# Altium footprint library Iot_board_pcblib.PcbLib: 18 footprints (part 1 of 2)
Each footprint in its own frame and in the unit in brackets; x right, y up, seen from the top. Pads: shape width x height; smd on the part's side, far side on the other; paste and mask are expansions set on the pad; w line width, h text height; cw(c..) or ccw(c..) is an arc to the next point about the centre after c.
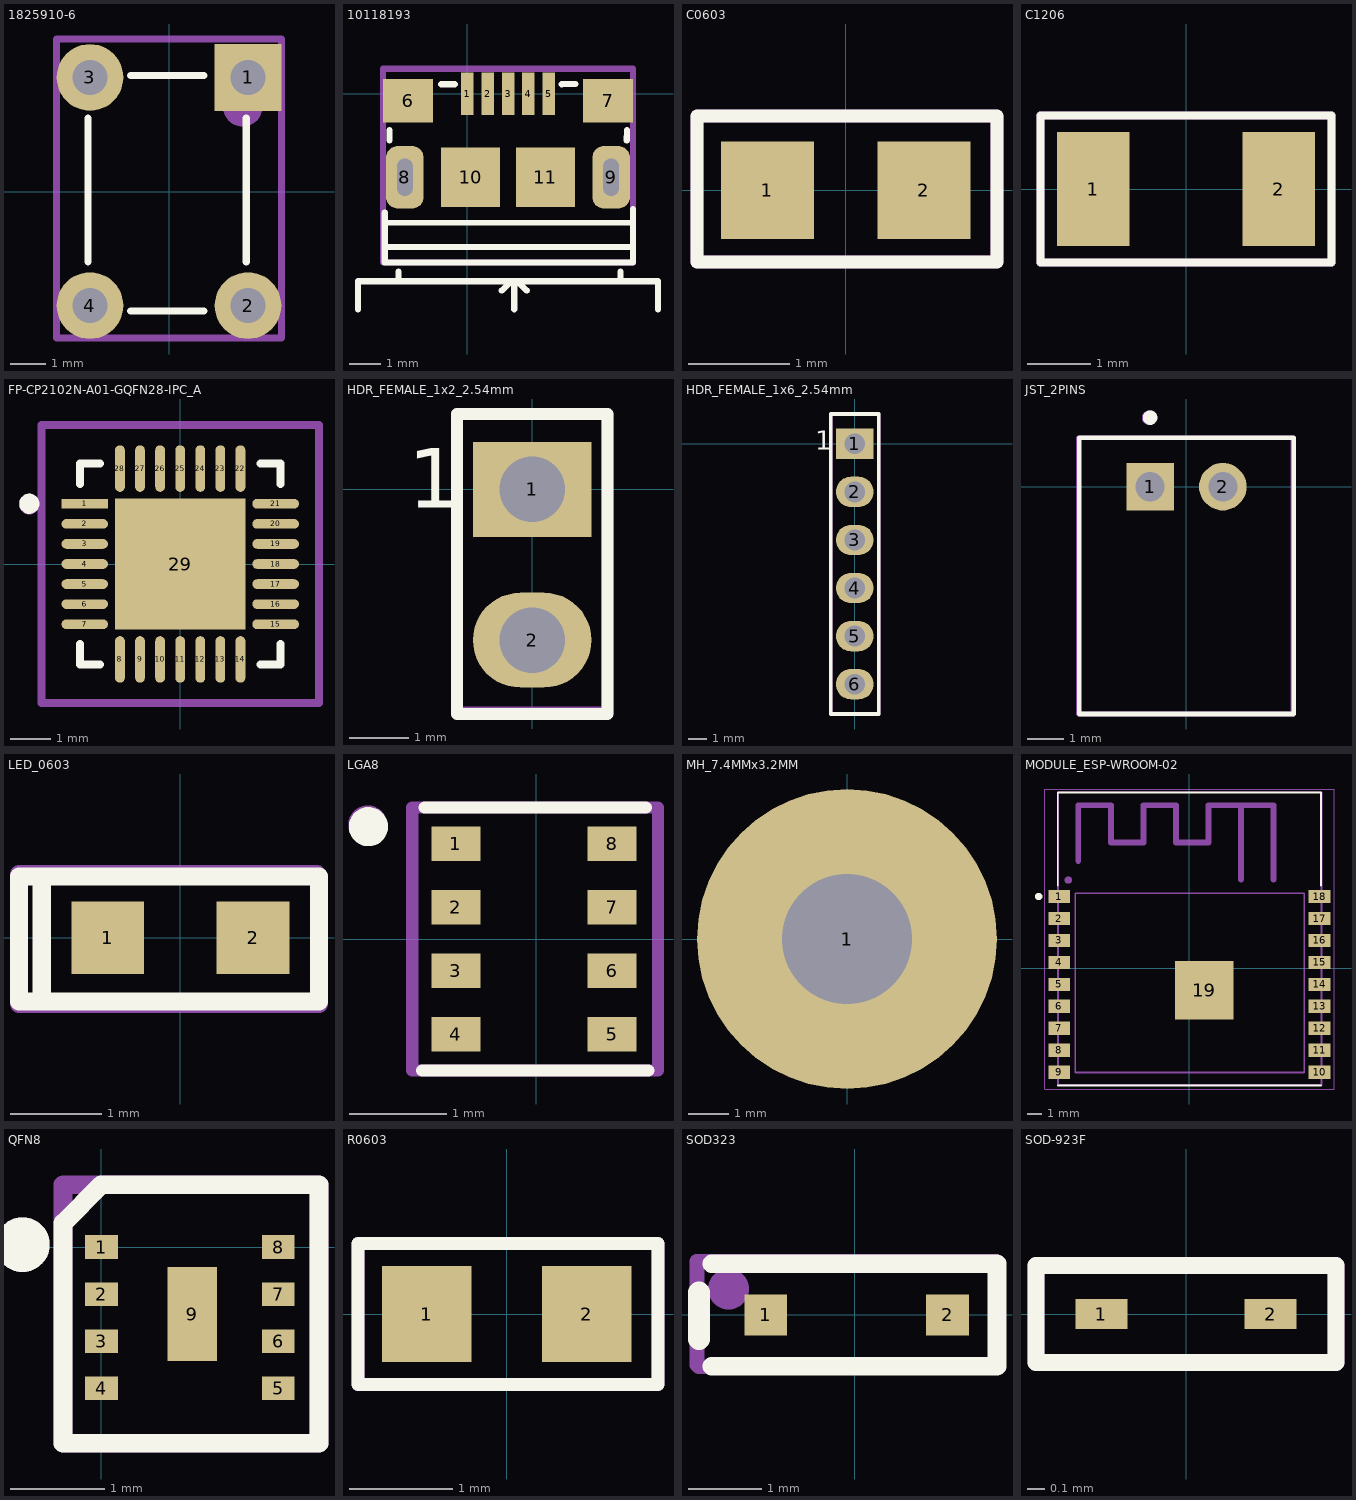
[diagram p0: the footprints below, top view; thin cyan lines are the x and y axes]

## 1825910-6 [mm]
pads (4):
  rect 1.9x1.9 hole 1: 1(2.25,3.25)
  round 1.9 hole 1: 2(2.25,-3.25) 3(-2.25,3.25) 4(-2.25,-3.25)
Top Overlay:
  lines w0.2: -2.3,-2 -2.3,2.1 ; -1.1,-3.4 1,-3.4 ; -1.1,3.3 1,3.3 ; 2.2,-2 2.2,2.1
Mechanical 29:
  circle w0.508: c2.1,2.4 r0.3
  lines w0.2: -3.2,-4.166 -3.2,3.912 -3.2,4.343 3.2,4.343 3.2,-4.166 -3.2,-4.166
  text ".Designator" at 0.41,-3.942 h1.3
3D body "User Library-FSM4JLH(1825910-5).step": height 5.01, standoff -3.5, extent -2.995,-3.898 2.995,3.9

## 10118193 [mm]
pads (11):
  rect 0.4x1.35 smd mask+0.05: 1(0,0) 2(0.65,0) 3(1.3,0) 4(1.95,0) 5(2.6,0)
  rect 1.6x1.4 smd: 6(-1.9,-0.225) 7(4.5,-0.225)
  rrect60% 1.2x2 hole 0.5 slot 1.2 at 90 deg: 8(-2,-2.675) 9(4.6,-2.675)
  rect 1.9x1.9 smd: 10(0.1,-2.675) 11(2.5,-2.675)
Top Overlay:
  lines w0.2: -3.5,-6.9 -3.5,-6 6.1,-6 6.1,-6.9 ; -2.642,-4.902 5.3,-4.9 ; -2.642,-3.8 -2.642,-5.4 5.3,-5.4 5.3,-3.7 ; -2.624,-4.125 5.283,-4.14 ; -2.489,-1.492 -2.489,-1.168 ; -2.2,-5.9 -2.2,-5.7 ; -0.838,0.305 -0.406,0.305 ; 1.1,-6.3 1.4,-6 1.5,-6 ; 1.5,-6.9 1.5,-6 ; 1.7,-6 1.5,-6 ; 1.9,-6.3 1.6,-6 ; 3.023,0.305 3.452,0.31 ; 4.9,-6 4.9,-5.7 ; 5.1,-1.5 5.105,-1.168 ; 1.5,-6 1.6,-6 ; 1.6,-6 1.55,-6 1.6,-6
Mechanical 29:
  lines w0.2: -2.7,-5.4 -2.7,0.8 5.3,0.8 5.3,-5.4 -2.7,-5.4
  text ".Designator" at -2.55,-1.883 h0.8
3D body "10118193-0001LF--3DModel-STEP-56544.STEP": height 2.86, standoff -0.74, extent -2.63,-5.41 5.23,0.3

## C0603 [mm]
pads (2):
  rect 0.92x0.97 smd: 1(-0.775,0) 2(0.775,0)
Top Overlay:
  lines w0.127: -1.473,-0.711 -1.473,0.737 1.499,0.737 1.499,-0.711 -1.473,-0.711
Mechanical 29:
  lines w0.127: -1.473,-0.711 -1.473,0.737 1.499,0.737 1.499,-0.711 -1.473,-0.711
  text ".Designator" at -1.73,-0.432 h1
3D body "C0603C106M9PACTU.STEP": height 0.79, standoff -0.01, extent -0.8,-0.467 0.8,0.483

## C1206 [mm]
pads (2):
  rect 1.16x1.82 smd: 1(-1.475,0) 2(1.475,0)
Top Overlay:
  lines w0.127: -2.311,-1.168 2.311,-1.168 2.311,1.168 -2.311,1.168 -2.311,-1.168
Mechanical 29:
  lines w0.127: -2.311,-1.168 2.311,-1.168 2.311,1.168 -2.311,1.168 -2.311,-1.168
  text ".Designator" at -2.111,-0.602 h1.1
3D body "C1206C107M9PACTU.STEP": height 0.85, standoff 0, extent -1.651,-0.8 1.549,0.8

## FP-CP2102N-A01-GQFN28-IPC_A [mm]
pads (29):
  rect 1.16x0.242 smd paste+0 mask+0: 1(-2.376,1.5)
  rrect100% 1.16x0.242 smd paste+0 mask+0: 2(-2.376,1) 3(-2.376,0.5) 4(-2.376,0) 5(-2.376,-0.5) 6(-2.376,-1) 7(-2.376,-1.5) 15(2.376,-1.5) 16(2.376,-1) 17(2.376,-0.5) 18(2.376,0) 19(2.376,0.5) 20(2.376,1) 21(2.376,1.5)
  rrect100% 0.242x1.16 smd paste+0 mask+0: 8(-1.5,-2.376) 9(-1,-2.376) 10(-0.5,-2.376) 11(0,-2.376) 12(0.5,-2.376) 13(1,-2.376) 14(1.5,-2.376) 22(1.5,2.376) 23(1,2.376) 24(0.5,2.376) 25(0,2.376) 26(-0.5,2.376) 27(-1,2.376) 28(-1.5,2.376)
  rect 3.25x3.25 smd paste-1000 mask+0: 29(0,0)
Top Overlay:
  circle w0.25: c-3.756,1.5 r0.125
  lines w0.2: -2.5,-1.996 -2.5,-2.5 -1.996,-2.5 ; -2.5,1.996 -2.5,2.5 -1.996,2.5 ; 1.996,-2.5 2.5,-2.5 2.5,-1.996 ; 1.996,2.5 2.5,2.5 2.5,1.996
Top Paste:
  rectangle: -1.028,-1.028 1.028,1.028
Mechanical 29:
  lines w0.2: -3.456,-3.456 3.456,-3.456 3.456,3.456 -3.456,3.456 -3.456,-3.456
  lines w0.508: -3.76,1.484 ccw(c-3.886,1.499) -3.759,1.499
  text ".Designator" at -3.002,-0.521 h1.5
3D body "IC_Silicon_Labs_CP2102N-A01-GQFN28_eec.STEP": height 0.25, standoff 0, extent -3.456,-3.456 3.456,3.456

## HDR_FEMALE_1x2_2.54mm [mm]
pads (2):
  rect 2x1.6 hole 1.1: 1(0,0)
  oval 2x1.6 hole 1.1: 2(0,-2.54)
Top Overlay:
  lines w0.2: -1.27,-3.785 -1.27,1.27 1.27,1.27 1.27,-3.785 -1.27,-3.785
  text "1" at -2.086,-0.308 h1
Mechanical 29:
  circle w0.508: c0,0 r0.254
  lines w0.2: -1.27,-3.759 1.27,-3.759 1.27,1.27 -1.27,1.27 -1.27,-3.759
  text ".Designator" at 0.421,-4.167 h0.8

## HDR_FEMALE_1x6_2.54mm [mm]
pads (6):
  rect 2x1.6 hole 1.1: 1(0,0)
  oval 2x1.6 hole 1.1: 2(0,-2.54) 3(0,-5.08) 4(0,-7.62) 5(0,-10.16) 6(0,-12.7)
Top Overlay:
  lines w0.2: -1.27,-14.275 1.27,-14.275 1.27,1.575 -1.27,1.575 -1.27,-14.275
  text "1" at -2.086,-0.308 h1
Mechanical 29:
  circle w0.508: c0,0 r0.254
  lines w0.2: -1.27,-14.275 -1.27,1.575 1.27,1.575 1.27,-14.275 -1.27,-14.275
  text ".Designator" at 0.246,-10.722 h0.95
3D body "m20-7820646_asm.stp": height 8.31, standoff -3.19, extent -1.23,-14.17 1.27,1.47

## JST_2PINS [mm]
pads (2):
  rect 1.308x1.308 hole 0.8: 1(-1,0)
  round 1.308 hole 0.8: 2(1,0)
Top Overlay:
  circle w0.2: c-1,1.9 r0.1
  lines w0.127: -2.95,-6.25 2.95,-6.25 2.95,1.35 -2.95,1.35 -2.95,-6.25
Mechanical 29:
  circle w0.2: c-1.025,1.9 r0.1
  lines w0.127: -2.975,-6.25 2.925,-6.25 2.925,1.35 -2.975,1.35 -2.975,-6.25
  text ".Designator" at -3.027,-3.458 h1.3
3D body "S2B-PH-K-S(LF)(SN)--3DModel-STEP-1.STEP": height 4.8, standoff -3.38, extent -2.979,-6.188 2.921,1.412

## LED_0603 [mm]
pads (2):
  rect 0.8x0.8 smd: 1(-0.8,0) 2(0.8,0)
Top Overlay:
  lines w0.2: -1.525,-0.7 -1.775,-0.7 -1.775,0.675 -1.525,0.675 ; -1.525,-0.7 1.525,-0.7 1.525,0.675 -1.525,0.675 ; -1.525,-0.7 -1.525,0.675
Mechanical 29:
  lines w0.2: -1.775,-0.725 1.525,-0.725 1.525,0.675 1.5,0.7 -1.775,0.7 -1.775,-0.725
  text ".Designator" at -1.525,-0.25 h0.6
3D body "User Library-LED SMD 0603 super red.step": height 0.66, standoff 0.01, extent -0.85,-0.4 0.85,0.4

## LGA8 [mm]
pads (8):
  rect 0.5x0.35 smd: 1(-0.825,0.975) 2(-0.825,0.325) 3(-0.825,-0.325) 4(-0.825,-0.975) 5(0.775,-0.975) 6(0.775,-0.325) 7(0.775,0.325) 8(0.775,0.975)
Top Overlay:
  circle w0.2: c-1.72,1.15 r0.1
  lines w0.127: -1.168,-1.346 1.143,-1.346 ; -1.143,1.346 1.118,1.346
Mechanical 29:
  circle w0.2: c-1.727,1.168 r0.1
  lines w0.127: -1.27,-1.346 1.245,-1.346 1.245,1.346 -1.27,1.346 -1.27,-1.346
  text ".Designator" at 0.183,-1.297 h0.6
3D body "BMP280--3DModel-STEP-1.STEP": height 1, standoff 0, extent -1.051,-1.255 0.949,1.245

## MH_7.4MMx3.2MM [mm]
pads (1):
  round 7.4 hole 3.2: 1(0,0)

## MODULE_ESP-WROOM-02 [mm]
pads (19):
  rect 1.485x0.9 smd paste-2: 1(-8.892,4.9) 2(-8.892,3.4) 3(-8.892,1.9) 4(-8.892,0.4) 5(-8.892,-1.1) 6(-8.892,-2.6) 7(-8.892,-4.1) 8(-8.892,-5.6) 9(-8.892,-7.1) 10(8.892,-7.1) 11(8.892,-5.6) 12(8.892,-4.1) 13(8.892,-2.6) 14(8.892,-1.1) 15(8.892,0.4) 16(8.892,1.9) 17(8.892,3.4) 18(8.892,4.9)
  rect 4x4 smd paste-3: 19(1,-1.5)
Top Overlay:
  circle w0.4: c-10.3,4.9 r0.05
  lines w0.127: -9,-8 9,-8 ; -9,5.64 -9,12 9,12 9,5.64
Mechanical Drawings (Mech15):
  lines w0.05: -9.885,-8.25 -9.885,12.25 9.885,12.25 9.885,-8.25 -9.885,-8.25
Mechanical 29:
  circle w0.4: c-8.275,6.025 r0.05
  lines w0.127: -8.975,-7.975 9.025,-7.975 9.025,12.025 -8.975,12.025 -8.975,-7.975 ; -7.8,-7.125 -7.8,5.125 7.85,5.125 7.85,-7.125 -7.8,-7.125
  lines w0.406: -7.595,7.328 -7.595,11.138 -5.372,11.138 -5.372,8.598 -3.15,8.598 -3.15,11.138 -0.927,11.138 -0.927,8.598 1.295,8.598 1.295,11.138 3.518,11.138 ; 3.518,6.058 3.518,11.138 ; 5.74,6.058 5.74,11.138 3.518,11.138
  text ".Designator" at -6.634,-5.642 h1.3
3D body "step_temp.STEP": height 3.3, standoff 0, extent -9.025,-7.942 8.975,12.058

## QFN8 [mm]
pads (9):
  rect 0.35x0.25 smd: 1(0,0) 2(0,-0.5) 3(0,-1) 4(0,-1.5) 5(1.879,-1.5) 6(1.879,-1) 7(1.879,-0.5) 8(1.879,0)
  rect 0.524x1 smd: 9(0.965,-0.711)
Top Overlay:
  circle w0.508: c-0.838,0.025 r0.036
  lines w0.2: -0.406,-2.083 2.311,-2.083 2.311,0.66 0,0.66 -0.406,0.254 -0.406,-2.083
Mechanical 29:
  circle w0.508: c-0.838,0.025 r0.036
  lines w0.2: -0.406,-2.083 2.311,-2.083 2.311,0.66 -0.406,0.66 -0.406,-2.083
  text ".Designator" at -0.56,-1.122 h0.6
3D body "SHT30-DIS-B.STEP": height 0.9, standoff 0, extent -0.311,-1.969 2.191,0.533

## R0603 [mm]
pads (2):
  rect 0.87x0.93 smd: 1(-0.78,0) 2(0.78,0)
Top Overlay:
  lines w0.127: -1.448,-0.686 -1.448,0.686 1.473,0.686 1.473,-0.686 -1.448,-0.686
Mechanical 29:
  lines w0.127: -1.448,-0.686 -1.448,0.686 1.473,0.686 1.473,-0.686 -1.448,-0.686
  text ".Designator" at -1.322,-0.275 h0.6
3D body "CRCW060310K0FKEAC.STEP": height 0.55, standoff 0, extent -0.825,-0.4 0.775,0.4

## SOD323 [mil]
pads (2):
  rect 23x22 smd: 1(-48,0) 2(50,0)
Top Overlay:
  lines w10: -77,-27.56 76.63,-27.56 76.63,-13.78 76.63,13.78 76.63,27.56 -77,27.56
  lines w11.81: -84,-13 -84,12
Mechanical 29:
  circle w20: c-68,14 r1
  lines w7.87: -85,-27 -85,29 76,29 76,-28 -84,-28 -85,-27
  text ".Designator" at -48.06,-4.19 h23.62
3D body "User Library-SOD323.step": height 35.43, standoff -3.54, extent -48.21,-25.21 50.21,24

## SOD-923F [mm]
pads (2):
  rect 0.3x0.175 smd: 1(-0.487,0) 2(0.487,0)
Top Overlay:
  lines w0.1: -0.864,-0.279 0.864,-0.279 0.864,0.279 -0.864,0.279 -0.864,-0.279
Mechanical 29:
  lines w0.1: -0.864,-0.279 0.864,-0.279 0.864,0.279 -0.864,0.279 -0.864,-0.279
  text ".Designator" at -0.784,-0.099 h0.3
3D body "CPDQ.step": height 0.82, standoff 0, extent -0.546,-0.33 0.496,0.33